# Altium integrated library LED Indication - Discrete.IntLib: 3 symbols
Pins are listed as number, name and electrical type; pins without a type are passive.

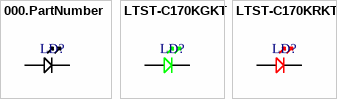
[diagram p0: symbols 000.PartNumber to LTST-C170KRKT]

## 000.PartNumber
designator LD?  (value not drawn)
Digikey Description; Manufacturer: *; Series: *; Package: *; Color: *; Configuration: *; Lens Color: *; Lens Transparency: *; Millicandela Rating: *; Lens Style: *; Lens Size: *; Voltage - Forward (Vf) (Typ): *; Current - Test: *; Viewing Angle: *; Mounting Type: *; Wavelength - Dominant: *; Wavelength - Peak: *; Features: *; Package / Case: *; Size / Dimension: *; Height (Max): *; Base Product Number: *; Ozdisan Link: *; Digikey Link: *; Farnell TR Link: *; Mouser Link: *
pins: 1 R+, 2 R-

## LTST-C170KGKT
designator LD?  (value not drawn)
LED GREEN CLEAR SMD; Manufacturer: Lite-On Inc.; Configuration: Standard; Lens Color: Colorless; Millicandela Rating: 35mcd; Lens Style: Rectangle with Flat Top; Lens Size: 1.40mm x 1.25mm; Voltage - Forward (Vf) (Typ): 2 V; Current - Test: 20 mA; Viewing Angle: 130°; Wavelength - Dominant: 571nm; Wavelength - Peak: 574nm; Base Product Number: LTST-C170; Series: -; Package: Tape & Reel (TR); Color: Green; Lens Transparency: Clear; Mounting Type: Surface Mount; Features: -; Package / Case: 0805 (2012 Metric); Size / Dimension: 2.00mm L x 1.25mm W; Height (Max): 1.10 mm; Ozdisan Link: https://ozdisan.com/led-ve-aydinlatma-cozumleri/led-komponentler/sinyal-ledler-renkli/LTST-C170KGKT; Digikey Link: https://www.digikey.com/en/products/detail/lite-on-inc/LTST-C170KGKT/386777?s=N4IgTCBcDaIDIBUDKCC0BhAjAdgAwGkBxfBEAXQF8g; Farnell TR Link: -; Mouser Link: https://www.mouser.com.tr/ProductDetail/Lite-On/LTST-C170KGKT?qs=%2Fha2pyFaduiaE0aNI0zQNirGEfOV0%252B5iakXq9q5BVCCR7VpJeE3UmA%3D%3D
footprint LITEON_0805-GREEN
pins: 1 R+, 2 R-

## LTST-C170KRKT
designator LD?  (value not drawn)
LED RED CLEAR SMD; Manufacturer: Lite-On Inc.; Configuration: Standard; Lens Color: Colorless; Millicandela Rating: 54mcd; Lens Style: Rectangle with Flat Top; Lens Size: 1.40mm x 1.25mm; Voltage - Forward (Vf) (Typ): 2 V; Current - Test: 20 mA; Viewing Angle: 130°; Wavelength - Dominant: 631 nm; Wavelength - Peak: 639 nm; Base Product Number: LTST-C170; Series: -; Package: Tape & Reel (TR); Color: Red; Lens Transparency: Clear; Mounting Type: Surface Mount; Features: -; Package / Case: 0805 (2012 Metric); Size / Dimension: 2.00mm L x 1.25mm W; Height (Max): 1.10 mm; Ozdisan Link: https://ozdisan.com/led-ve-aydinlatma-cozumleri/led-komponentler/sinyal-ledler-renkli/LTST-C170KRKT; Digikey Link: https://www.digikey.com/en/products/detail/lite-on-inc/LTST-C170KRKT/386779?s=N4IgTCBcDaIDIBUDKCC0BhAjAdgAwGkAlfBEAXQF8g; Farnell TR Link: -; Mouser Link: https://www.mouser.com.tr/ProductDetail/Lite-On/LTST-C170KRKT?qs=%2Fha2pyFaduiaE0aNI0zQNr4FnxnMj%252B4eHH9jzU%2FKqwHXf95mmJnHqg%3D%3D
footprint LITEON_0805-RED
pins: 1 R+, 2 R-